# EAGLE library part TB6559 (library myparts)
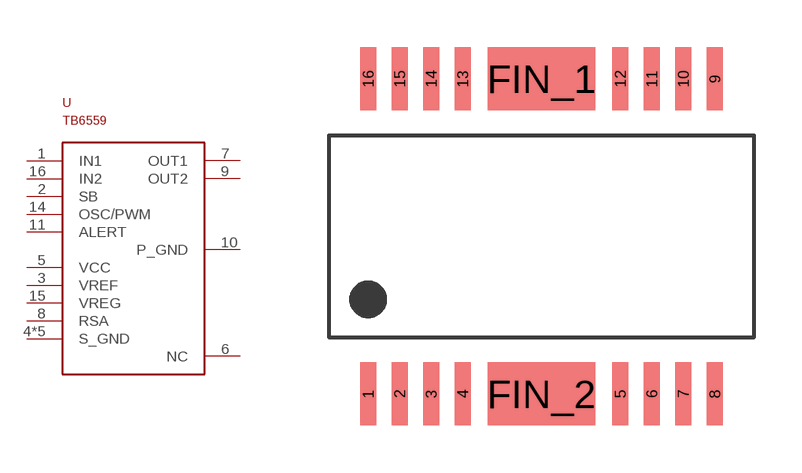
[diagram p16: symbol with the pads of HSOP-16; footprint HSOP-16]

Designator prefix -

## TB6559  [HSOP-16]
1  IN1
2  SB
3  VREF
4  S_GND
5  VCC
6  NC
7  OUT1
8  RSA
9  OUT2
10  P_GND
11  ALERT
12  S_GND
13  S_GND
14  OSC/PWM
15  VREG
16  IN2
FIN_1  S_GND
FIN_2  S_GND

## Footprint HSOP-16 (pad centres in mm)
smd 0.5 x 2: 1 -5.5,-5; 2 -4.5,-5; 3 -3.5,-5; 4 -2.5,-5; 5 2.5,-5; 6 3.5,-5; 7 4.5,-5; 8 5.5,-5; 9 5.5,5; 10 4.5,5; 11 3.5,5; 12 2.5,5; 13 -2.5,5; 14 -3.5,5; 15 -4.5,5; 16 -5.5,5
smd 3.4 x 2: FIN_1 0,5; FIN_2 0,-5